# EAGLE library part JTAG-FPGA (library manualControl)
Digikey 3M9488CT-ND
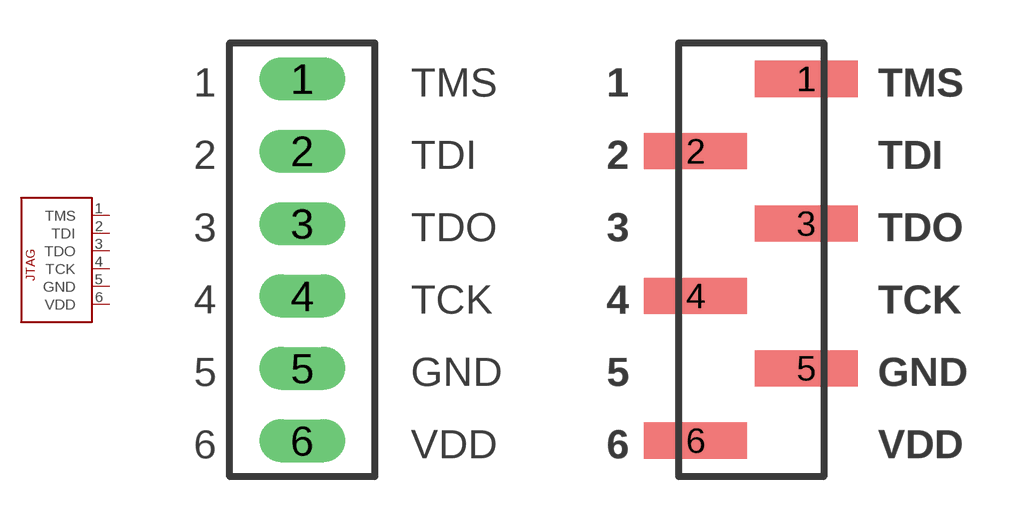
[diagram p21: symbol with the pads of HEADER6; footprints HEADER6, HEADER6-SMT]

Designator prefix JTAG

## JTAG-FPGA  [HEADER6]
1  TMS
2  TDI
3  TDO
4  TCK
5  GND
6  VDD

## JTAG-FPGASMT  [HEADER6-SMT]
Pads as for HEADER6

## Footprint HEADER6 (pad centres in mm)
drill 1 long: 1 0,5.08; 2 0,2.54; 3 0,0; 4 0,-2.54; 5 0,-5.08; 6 0,-7.62

## Footprint HEADER6-SMT (pad centres in mm)
smd 3.607 x 1.27: 1 1.93,5.08; 2 -1.956,2.54; 3 1.93,0; 4 -1.956,-2.54; 5 1.93,-5.08; 6 -1.956,-7.62